# Altium schematic symbol library InverterSCHLib.SchLib: 137 symbols (part 3 of 5)
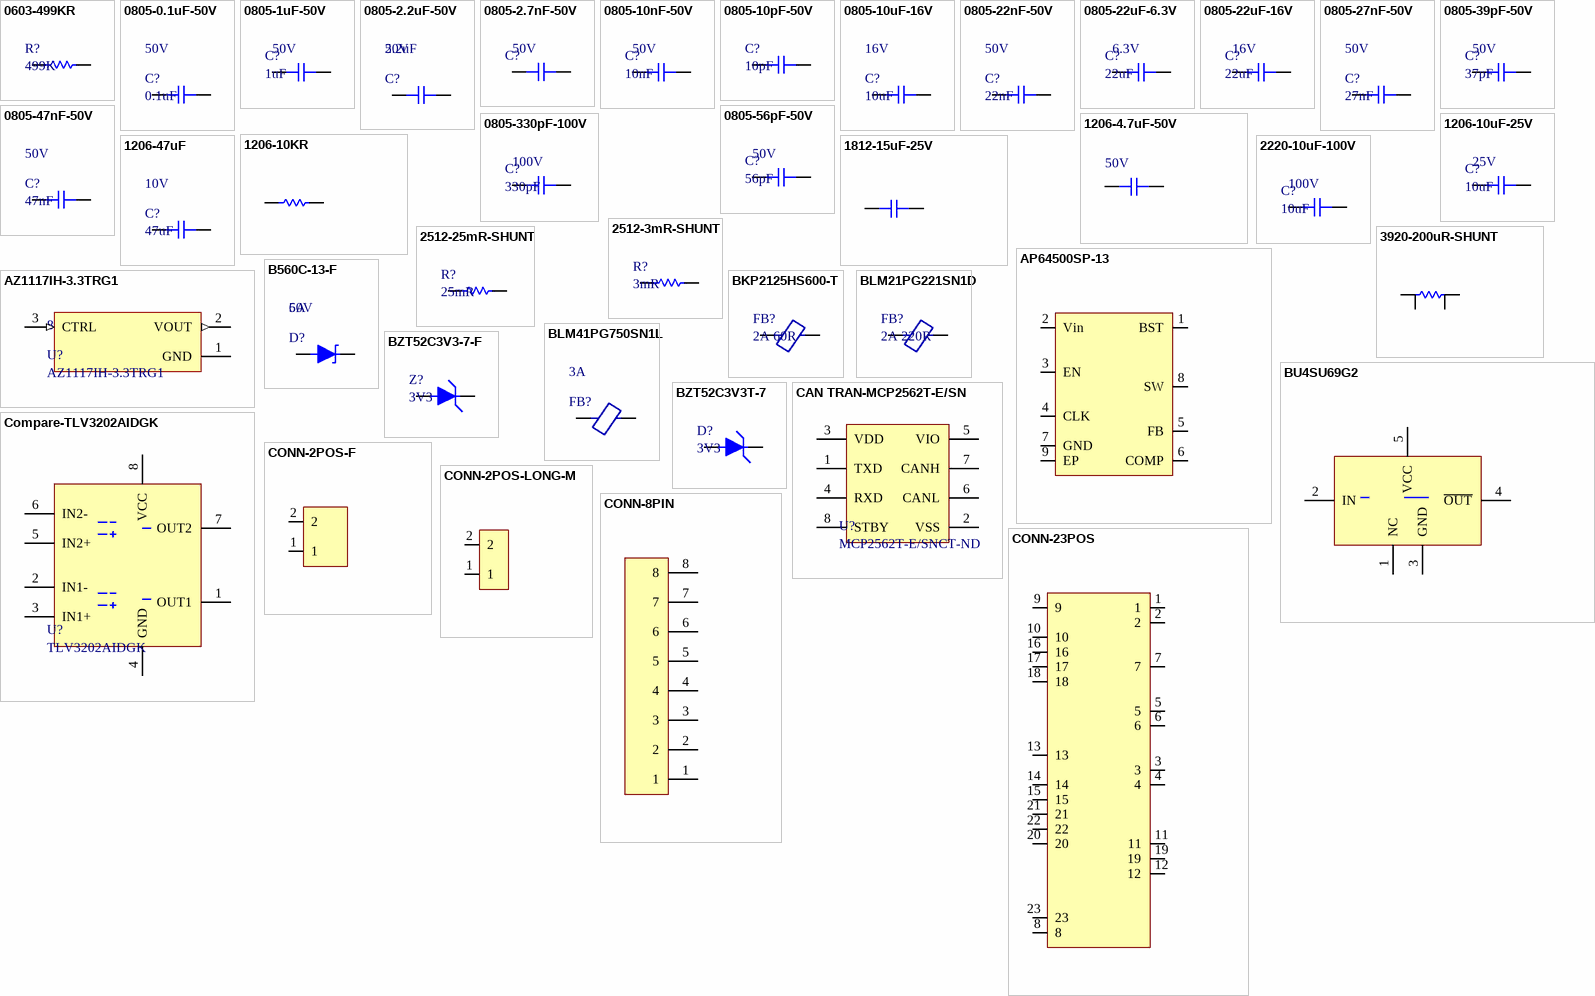
[diagram p5: symbols 0603-499KR to CONN-23POS]

## 3920-200uR-SHUNT
designator R?, comment 200uR
RES SMD 200 UOHM 1% 12W 3920; Manufacturer: Bourns; Manufacturer Part Number: CSS2H-3920R-L200FE; Supplier 1: Digi-Key; Stock 1: 420; Pricing 1: 1=1.6, 10=1.42, 25=1.3052, 50=1.1908, 100=1.0305, 250=0.8702, 500=0.7328 (USD); RoHS Compliant: Yes; ComponentLink1URL: https://www.bourns.com/docs/Product-Datasheets/css2h-3920.pdf?src-supplier=Digi-Key; ComponentLink1Description: https://www.bourns.com/docs/Product-Datasheets/css2h-3920.pdf?src-supplier=Digi-Key; Supplier Part Number 1: CSS2H-3920R-L200FEDKR-ND
footprint RES-SHUNT
pins: 1, 2, 3, 4

## AP64500SP-13
designator U?
DCDC CONV HV BUCK SO-8EP; Manufacturer: Diodes; Supplier 1: Digi-Key; Manufacturer Part Number: AP64500SP-13; Stock 1: 5134; Pricing 1: 1=2.44, 10=2.191, 25=2.0672, 100=1.7611, 250=1.6536, 500=1.4469, 1000=1.19886 (USD); Supplier Part Number 1: 31-AP64500SP-13DKR-ND
footprint SO-8 (TSOP, 8-Leads, Body 4.90x3.85mm, Pitch 1.27mm, Thermal Pad 3.35x2.71mm, IPC Medium Density)
pins: 1 BST, 2 Vin, 3 EN, 4 CLK, 5 FB, 6 COMP, 7 GND, 8 SW, 9 EP

## AZ1117IH-3.3TRG1
designator U?  Output Current: 800mA
IC REG LINEAR 3.3V 1A SOT223; Manufacturer: Diodes; Dropout Voltage: 1.2V; Number of Regulators: 1; Supplier 1: Digi-Key; Stock 1: 96644; Pricing 1: 1=0.38, 10=0.305, 25=0.2796, 100=0.2079, 250=0.18844, 500=0.15594, 1000=0.11696 (USD); Mount: Surface Mount; Case/Package: TO-261-4; Number of Pins: 3; Min Operating Temperature: -40°C; Max Operating Temperature: 125°C; Packaging: Tape and Reel; Output Voltage: 3.3V; Min Current Limit: 1A; RoHS Compliant: Yes; ComponentLink1URL: https://www.diodes.com/assets/Datasheets/AZ1117I.pdf?src-supplier=Digi-Key; ComponentLink1Description: https://www.diodes.com/assets/Datasheets/AZ1117I.pdf?src-supplier=Digi-Key; Supplier Part Number 1: AZ1117IH-3.3TRG1DICT-ND; Manufacturer Part Number: AZ1117IH-3.3TRG1
footprint SOT223 (SOT223, 4-Leads, Body 6.50x7.00mm (avg), Pitch 2.30mm, IPC Medium Density)
pins: 1 GND, 2 VOUT (out), 3 CTRL (in)

## B560C-13-F
designator D?  Voltage Rating (DC): 60V  Current Rating: 5A  (hidden comment: *)
DIODE SCHOTTKY 60V 5A SMC; Manufacturer: Diodes; Manufacturer Part Number: B560C-13-F; Max Reverse Current: 500uA; Forward Voltage: 700mV; Max Forward Surge Current (Ifsm): 100A; Element Configuration: Single; Polarity: Standard; Capacitance: 300pF; Supplier 1: Digi-Key; Stock 1: 50354; Pricing 1: 1=0.53, 10=0.454, 100=0.3388, 500=0.2662, 1000=0.2057 (USD); Mount: Surface Mount; Case/Package: SMC; Number of Pins: 2; Weight: 0.007408oz; Contact Plating: Tin,Matte; Min Operating Temperature: -55°C; Max Operating Temperature: 125°C; Package Quantity: 3000; Packaging: Tape and Reel; Forward Current: 5A; Max Repetitive Reverse Voltage (Vrrm): 60V; Average Rectified Current: 5A; Peak Non-Repetitive Surge Current: 100A; Termination: SMD/SMT; Output Current: 5A; Max Reverse Voltage (DC): 60V; Series: -; Length: 7.11mm; Width: 6.22mm; Height: 2.5mm; Radiation Hardening: No; REACH SVHC: No SVHC; Lead Free: Lead Free; RoHS Compliant: Yes; ComponentLink1URL: https://www.diodes.com/assets/Datasheets/ds13012.pdf?src-supplier=Digi-Key; ComponentLink1Description: https://www.diodes.com/assets/Datasheets/ds13012.pdf?src-supplier=Digi-Key; ComponentLink2URL: http://www.farnell.com/datasheets/2238476.pdf?src-supplier=Element14; ComponentLink2Description: http://www.farnell.com/datasheets/2238476.pdf?src-supplier=Element14; ComponentLink3URL: https://www.verical.com/server-webapp/html/getDatasheet?partID=89786&src-supplier=Verical; ComponentLink3Description: https://www.verical.com/server-webapp/html/getDatasheet?partID=89786&src-supplier=Verical; ComponentLink4URL: http://www.diodes.com/datasheets/ds13012.pdf?src-supplier=Future+Electronics; ComponentLink4Description: http://www.diodes.com/datasheets/ds13012.pdf?src-supplier=Future+Electronics; ComponentLink5URL: http://www.diodes.com//datasheets/ds13012.pdf?src-supplier=Avnet+Europe; ComponentLink5Description: http://www.diodes.com//datasheets/ds13012.pdf?src-supplier=Avnet+Europe; ComponentLink6URL: http://www.jameco.com/Jameco/Products/ProdDS/1538961.pdf?src-supplier=Jameco; ComponentLink6Description: http://www.jameco.com/Jameco/Products/ProdDS/1538961.pdf?src-supplier=Jameco; ComponentLink7URL: http://datasheet.iiic.cc/diodes/B560C-13-F.pdf?src-supplier=IIIC; ComponentLink7Description: http://datasheet.iiic.cc/diodes/B560C-13-F.pdf?src-supplier=IIIC; Supplier Part Number 1: B560C-FDICT-ND
footprint DO-214AB, SMC (Molded Diode, 2-Leads, Body 6.86x5.91mm, IPC Medium Density)
pins: 1, 2

## BKP2125HS600-T
designator FB?, comment 2A 60R
FERRITE BEAD 60 OHM 0805 1LN; Manufacturer: Taiyo Yuden; Manufacturer Part Number: BKP2125HS600-T; Tolerance: 25%; Resistance: 25mR; Max Current Rating: 3A; Number of Lines: 1; Test Frequency: 100MHz; Shielding: Unshielded; Supplier 1: Digi-Key; Stock 1: 471; Pricing 1: 1=0.11, 10=0.086, 25=0.0768, 50=0.0564, 100=0.0487, 250=0.03848 (USD); Mount: Surface Mount; Case/Package: 0805; Number of Pins: 2; Core Material: Ferrite; Case Code (Metric): 2125; Case Code (Imperial): 0805; Min Operating Temperature: -55°C; Max Operating Temperature: 85°C; Packaging: Tape and Reel; Impedance: 60R; Package Quantity: 1; DC Resistance (DCR): 25mR; Max DC Current: 3A; Termination: SMD/SMT; Series: BK; Length: 2.3mm; Width: 0.049inch; Height: 1.05mm; Depth: 1.45mm; REACH SVHC: Unknown; Lead Free: Lead Free; Halogen Free: Halogen Free; RoHS Compliant: Yes; ComponentLink1URL: http://ds.yuden.co.jp/TYCOMPAS/ut/detail.do?productNo=BKP2125HS600-T&fileName=BKP2125HS600-T_SS&mode=specSheetDownload&src-supplier=Digi-Key; ComponentLink1Description: http://ds.yuden.co.jp/TYCOMPAS/ut/detail.do?productNo=BKP2125HS600-T&fileName=BKP2125HS600-T_SS&mode=specSheetDownload&src-supplier=Digi-Key; Supplier Part Number 1: 587-1932-1-ND
footprint FB-0805 (Chip Resistor, 2-Leads, Body 2.00x1.25mm, IPC Medium Density)
pins: 1, 2

## BLM21PG221SN1D
designator FB?, comment 2A 220R
FERRITE BEAD 220 OHM 0805 1LN; Manufacturer: Murata; Manufacturer Part Number: BLM21PG221SN1D; Material: Ferrite,Steel; Tolerance: 25%; Number of Lines: 1; DC Resistance (DCR): 45mR; Test Frequency: 100MHz; Shielding: Unshielded; Supplier 1: Digi-Key; Stock 1: 73275; Pricing 1: 1=0.1, 10=0.081, 25=0.074, 50=0.0666, 100=0.0488, 250=0.03552, 500=0.03256, 1000=0.02812 (USD); Case/Package: 0805; Number of Pins: 2; Core Material: Ferrite; Case Code (Metric): 2012; Case Code (Imperial): 0805; Contact Plating: Tin,Matte; Min Operating Temperature: -55°C; Max Operating Temperature: 125°C; Package Quantity: 1; Impedance: 220R; Max Current Rating: 2A; Packaging: Tape and Reel; Current Rating: 2A; Max DC Current: 2A; Termination: SMD/SMT; DC Current: 2A; Frequency: 100MHz; Number of Circuits: 1; Current: 2A; Series: BLM21P; DC Resistance-Max: 45mR; Length: 2mm; Width: 1.25mm; Height: 0.85mm; Depth: 1.25mm; Radiation Hardening: No; REACH SVHC: No SVHC; Military Standard: Not; Lead Free: Lead Free; RoHS Compliant: Yes; ComponentLink1URL: http://www.farnell.com/datasheets/1914683.pdf?src-supplier=Element14; ComponentLink1Description: http://www.farnell.com/datasheets/1914683.pdf?src-supplier=Element14; ComponentLink2URL: https://www.distrelec.biz/Web/Downloads/ta/_e/anBLM21P_Data_E.pdf?mime=application%2Fpdf&src-supplier=Distrelec; ComponentLink2Description: https://www.distrelec.biz/Web/Downloads/ta/_e/anBLM21P_Data_E.pdf?mime=application%2Fpdf&src-supplier=Distrelec; ComponentLink3URL: http://www.jameco.com/Jameco/Products/ProdDS/1845321.pdf?src-supplier=Jameco; ComponentLink3Description: http://www.jameco.com/Jameco/Products/ProdDS/1845321.pdf?src-supplier=Jameco; ComponentLink4URL: https://www.murata.com/en-us/products/productdata/8796738977822/ENFA0005.pdf?src-supplier=Digi-Key; ComponentLink4Description: https://www.murata.com/en-us/products/productdata/8796738977822/ENFA0005.pdf?src-supplier=Digi-Key; ComponentLink5URL: http://uk.rs-online.com/webdocs/1388/0900766b813885e8.pdf?src-supplier=RSComponents; ComponentLink5Description: http://uk.rs-online.com/webdocs/1388/0900766b813885e8.pdf?src-supplier=RSComponents; ComponentLink6URL: http://search.murata.co.jp/Ceramy/image/img/PDF/ENG/L0110S0100BLM21P.pdf?src-supplier=Avnet; ComponentLink6Description: http://search.murata.co.jp/Ceramy/image/img/PDF/ENG/L0110S0100BLM21P.pdf?src-supplier=Avnet; ComponentLink7URL: http://search.murata.co.jp/Ceramy/image/img/PDF/ENG/L0110S0100BLM21P.pdf?src-supplier=Future+Electronics; ComponentLink7Description: http://search.murata.co.jp/Ceramy/image/img/PDF/ENG/L0110S0100BLM21P.pdf?src-supplier=Future+Electronics; ComponentLink8URL: http://www.produktinfo.conrad.com/datenblaetter/425000-449999/442529-da-01-en-CHIP_DROSSEL_0805_220R_2000MA_2_0X1_25MM.pdf?src-supplier=Conrad; ComponentLink8Description: http://www.produktinfo.conrad.com/datenblaetter/425000-449999/442529-da-01-en-CHIP_DROSSEL_0805_220R_2000MA_2_0X1_25MM.pdf?src-supplier=Conrad; Supplier Part Number 1: 490-1054-1-ND
footprint FB-0805 (Chip Resistor, 2-Leads, Body 2.00x1.25mm, IPC Medium Density)
pins: 1, 2

## BLM41PG750SN1L
designator FB?, comment Max DC Current: 3A  (hidden comment: 75R @ 100MHz)
FERRITE BEAD 75 OHM 1806 1LN; Manufacturer: Murata; Manufacturer Part Number: BLM41PG750SN1L; Material: Ferrite,Steel; Current Rating: 3.5A; Tolerance: 25%; Number of Lines: 1; DC Resistance (DCR): 25mR; Shielding: Unshielded; DC Resistance-Max: 15mR; Supplier 1: Digi-Key; Stock 1: 3821; Pricing 1: 1=0.34, 10=0.269, 25=0.2272, 50=0.2, 100=0.1789, 250=0.15576, 500=0.14104, 1000=0.11998 (USD); Mount: Surface Mount; Case/Package: 1806; Number of Pins: 2; Core Material: Ferrite; Case Code (Metric): 4516; Case Code (Imperial): 1806; Contact Plating: Tin,Matte; Min Operating Temperature: -55°C; Max Operating Temperature: 125°C; Impedance: 75R; Package Quantity: 1; Packaging: Tape and Reel; Max Current Rating: 3A; Termination: Flat; Test Frequency: 100MHz; Frequency: 100MHz; Number of Circuits: 1; Series: BLM41P; Inductor Type: FERRITE BEAD; Length: 4.5mm; Width: 1.6mm; Height: 1.6mm; Depth: 1.6mm; REACH SVHC: No SVHC; Lead Free: Lead Free; RoHS Compliant: Yes; ComponentLink1URL: http://www.murata.com/~/media/webrenewal/support/library/catalog/products/emc/emifil/c31e.ashx?src-supplier=Avnet; ComponentLink1Description: http://www.murata.com/~/media/webrenewal/support/library/catalog/products/emc/emifil/c31e.ashx?src-supplier=Avnet; ComponentLink2URL: https://www.murata.com/en-global/products/productdata/8796733767710/S0580E.pdf?src-supplier=Digi-Key; ComponentLink2Description: https://www.murata.com/en-global/products/productdata/8796733767710/S0580E.pdf?src-supplier=Digi-Key; ComponentLink3URL: http://www.farnell.com/datasheets/1756166.pdf?src-supplier=Element14; ComponentLink3Description: http://www.farnell.com/datasheets/1756166.pdf?src-supplier=Element14; ComponentLink4URL: http://uk.rs-online.com/webdocs/13eb/0900766b813eb952.pdf?src-supplier=RSComponents; ComponentLink4Description: http://uk.rs-online.com/webdocs/13eb/0900766b813eb952.pdf?src-supplier=RSComponents; ComponentLink5URL: https://www.distrelec.biz/Web/Downloads/ta/_e/arBLM41P_Data_E.pdf?mime=application%2Fpdf&src-supplier=Distrelec; ComponentLink5Description: https://www.distrelec.biz/Web/Downloads/ta/_e/arBLM41P_Data_E.pdf?mime=application%2Fpdf&src-supplier=Distrelec; ComponentLink6URL: http://search.murata.co.jp/Ceramy/image/img/PDF/ENG/L0110S0100BLM41P.pdf?src-supplier=Future+Electronics; ComponentLink6Description: http://search.murata.co.jp/Ceramy/image/img/PDF/ENG/L0110S0100BLM41P.pdf?src-supplier=Future+Electronics; ComponentLink7URL: http://www.murata.com/products/catalog/pdf/c31e.pdf?src-supplier=Avnet+Europe; ComponentLink7Description: http://www.murata.com/products/catalog/pdf/c31e.pdf?src-supplier=Avnet+Europe; ComponentLink8URL: http://www.jameco.com/Jameco/Products/ProdDS/1845515.pdf?src-supplier=Jameco; ComponentLink8Description: http://www.jameco.com/Jameco/Products/ProdDS/1845515.pdf?src-supplier=Jameco; ComponentLink9URL: http://www.produktinfo.conrad.com/datenblaetter/425000-449999/442679-da-01-en-CHIP_DROSSEL_1806_75R0_3000MA_4_5X1_60MM.pdf?src-supplier=Conrad; ComponentLink9Description: http://www.produktinfo.conrad.com/datenblaetter/425000-449999/442679-da-01-en-CHIP_DROSSEL_1806_75R0_3000MA_4_5X1_60MM.pdf?src-supplier=Conrad; Supplier Part Number 1: 490-4013-1-ND
pins: 1, 2

## BU4SU69G2
designator U?
IC INVERTER 1CH 1-INP 5SSOP; Manufacturer: Rohm; Manufacturer Part Number: BU4SU69G2-TR; Number of Inputs: 1; Propagation Delay: 25ns; Max Supply Voltage: 16V; Min Supply Voltage: 3V; Quiescent Current: 1uA; High Level Output Current: 3.4mA; Supplier 1: Digi-Key; Stock 1: 2901; Pricing 1: 1=0.89, 10=0.781, 25=0.7336, 100=0.5986, 250=0.556, 500=0.47318, 1000=0.37855 (USD); Mount: Surface Mount; Case/Package: SSOP; Number of Pins: 5; Contact Plating: Copper,Tin; Min Operating Temperature: -40°C; Max Operating Temperature: 85°C; Logic Function: Inverter; Number of Elements: 1; Package Quantity: 1; Packaging: Tape and Reel; Number of Circuits: 1; Low Level Output Current: 3.4mA; Turn-On Delay Time: 25ns; Number of Gates: 1; Series: 4S; Number of Functions: 1; Supply Voltage-Nom: 16V; Technology: CMOS; Radiation Hardening: No; Lead Free: Lead Free; RoHS Compliant: Yes; ComponentLink1URL: http://www.mouser.com/ds/2/348/bu4su69g2-e-962457.pdf?src-supplier=Mouser; ComponentLink1Description: http://www.mouser.com/ds/2/348/bu4su69g2-e-962457.pdf?src-supplier=Mouser; ComponentLink2URL: http://rohmfs.rohm.com/en/products/databook/datasheet/ic/logic_switch/standard_logic/bu4s01g2-e.pdf?src-supplier=Avnet; ComponentLink2Description: http://rohmfs.rohm.com/en/products/databook/datasheet/ic/logic_switch/standard_logic/bu4s01g2-e.pdf?src-supplier=Avnet; ComponentLink3URL: https://www.verical.com/server-webapp/html/getDatasheet?partID=458866&src-supplier=Verical; ComponentLink3Description: https://www.verical.com/server-webapp/html/getDatasheet?partID=458866&src-supplier=Verical; ComponentLink4URL: http://rohmfs.rohm.com/en/techdata_basic/ic/package/ssop5_1-e.pdf?src-supplier=Digi-Key; ComponentLink4Description: http://rohmfs.rohm.com/en/techdata_basic/ic/package/ssop5_1-e.pdf?src-supplier=Digi-Key; ComponentLink5URL: http://rohmfs.rohm.com/en/products/databook/datasheet/ic/logic_switch/standard_logic/bu4su69g2-e.pdf?src-supplier=Digi-Key; ComponentLink5Description: http://rohmfs.rohm.com/en/products/databook/datasheet/ic/logic_switch/standard_logic/bu4su69g2-e.pdf?src-supplier=Digi-Key; ComponentLink6URL: https://produktinfo.conrad.com/datenblaetter/125000-149999/140507-da-01-en-IC_BU4SU69G2_TR_SSOP5.pdf?src-supplier=Conrad; ComponentLink6Description: https://produktinfo.conrad.com/datenblaetter/125000-149999/140507-da-01-en-IC_BU4SU69G2_TR_SSOP5.pdf?src-supplier=Conrad; Supplier Part Number 1: BU4SU69G2DKR-ND
footprint SSOP5 (SOT23, 5-Leads, Body 2.90x2.80mm, Pitch 0.95mm, IPC Medium Density)
pins: 1 NC, 2 IN, 3 GND, 4 ~{OUT}, 5 VCC

## BZT52C3V3-7-F
designator Z?, comment 3V3
DIODE ZENER 3.3V 500MW SOD123; Manufacturer: Diodes; Manufacturer Part Number: BZT52C3V3-7-F; Tolerance: 6%; Forward Voltage: 900mV; Impedance: 95R; Max Reverse Leakage Current: 5uA; Zener Current: 5mA; Element Configuration: Single; Output Current: 50mA; ESD Protection: No; Supplier 1: Digi-Key; Stock 1: 85644; Pricing 1: 1=0.22, 10=0.202, 100=0.1101, 500=0.06776, 1000=0.0462 (USD); Mount: Surface Mount; Number of Pins: 2; Weight: 0.000353oz; Contact Plating: Tin,Matte; Min Operating Temperature: -65°C; Max Operating Temperature: 150°C; Max Power Dissipation: 500mW; Package Quantity: 3000; Packaging: Tape and Reel; Zener Voltage: 3.3V; Power Dissipation: 500mW; Voltage Tolerance: 6%; Test Current: 5mA; Working Voltage: 3.3V; Max Reverse Current: 5uA; Termination: SMD/SMT; Power Rating: 500mW; Voltage Rating (DC): 3.3V; Series: -; Length: 2.85mm; Width: 1.7mm; Height: 1.35mm; Radiation Hardening: No; REACH SVHC: No SVHC; Lead Free: Lead Free; RoHS Compliant: Yes; ComponentLink1URL: http://www.jameco.com/Jameco/Products/ProdDS/1589996.pdf?src-supplier=Jameco; ComponentLink1Description: http://www.jameco.com/Jameco/Products/ProdDS/1589996.pdf?src-supplier=Jameco; ComponentLink2URL: https://www.verical.com/server-webapp/html/getDatasheet?partID=116118&src-supplier=Verical; ComponentLink2Description: https://www.verical.com/server-webapp/html/getDatasheet?partID=116118&src-supplier=Verical; Supplier Part Number 1: BZT52C3V3-FDICT-ND
footprint SOD-123 (SODFL, 2-Leads, Body 1.60x3.71mm, IPC Medium Density)
pins: 1, 2

## BZT52C3V3T-7
designator D?, comment 3V3
Diode Zener Single 3.3V 6% 300mW 2-Pin SOD-523 T/R; Manufacturer: Diodes; Manufacturer Part Number: BZT52C3V3T-7; Forward Voltage: 900mV; Impedance: 95R; Zener Current: 5mA; Max Reverse Current: 5uA; ESD Protection: No; Supplier 1: Digi-Key; Stock 1: 0; Pricing 1: 1=0.22, 10=0.202, 100=0.1101, 500=0.06776, 1000=0.0462 (USD); Mount: Surface Mount; Number of Pins: 2; Weight: 3.5E-05oz; Contact Plating: Tin,Matte; Min Operating Temperature: -65°C; Max Operating Temperature: 150°C; Packaging: Tape and Reel; Max Power Dissipation: 300mW; Package Quantity: 3000; Tolerance: 6%; Zener Voltage: 3.3V; Voltage Tolerance: 6%; Max Reverse Leakage Current: 5uA; Power Dissipation: 300mW; Working Voltage: 3.3V; Test Current: 5mA; Element Configuration: Single; Termination: SMD/SMT; Power Rating: 300mW; Series: -; Length: 1.3mm; Width: 0.9mm; Height: 0.7mm; REACH SVHC: No SVHC; Lead Free: Lead Free; RoHS Compliant: Yes; ComponentLink1URL: http://www.farnell.com/datasheets/2238346.pdf?src-supplier=Element14; ComponentLink1Description: http://www.farnell.com/datasheets/2238346.pdf?src-supplier=Element14; ComponentLink2URL: http://www.mouser.com/ds/2/115/ds30502-85251.pdf?src-supplier=Mouser; ComponentLink2Description: http://www.mouser.com/ds/2/115/ds30502-85251.pdf?src-supplier=Mouser; ComponentLink3URL: http://www.diodes.com/datasheets/ds30502.pdf?src-supplier=Avnet+Europe; ComponentLink3Description: http://www.diodes.com/datasheets/ds30502.pdf?src-supplier=Avnet+Europe; ComponentLink4URL: https://www.diodes.com/assets/Datasheets/ds30502.pdf?src-supplier=Digi-Key; ComponentLink4Description: https://www.diodes.com/assets/Datasheets/ds30502.pdf?src-supplier=Digi-Key; Supplier Part Number 1: BZT52C3V3T-7DIDKR-ND
footprint SOD523-ZENER (SODFL, 2-Leads, Body 0.80x1.95mm, IPC Medium Density)
pins: 1, 2

## CAN TRAN-MCP2562T-E/SN
designator U?, comment MCP2562T-E/SNCT-ND
IC TRANSCEIVER HALF 1/1 8SOIC; Manufacturer: Microchip; Propagation Delay: 125ns; Data Rate: 1Mbps; Nominal Supply Current: 85uA; Max Supply Voltage: 5.5V; Min Supply Voltage: 4.5V; Number of Transceivers: 1; Receiver Hysteresis: 200mV; Supplier 1: Digi-Key; Manufacturer Part Number: MCP2562T-E/SN; Stock 1: 0; Pricing 1: 1=0.9, 25=0.75, 100=0.68 (USD); Mount: Surface Mount; Case/Package: SOIC; Number of Pins: 8; Min Operating Temperature: -40°C; Max Operating Temperature: 125°C; Packaging: Tape and Reel; Package Quantity: 3300; Turn-On Delay Time: 125ns; Radiation Hardening: No; Lead Free: Lead Free; ComponentLink1URL: http://ww1.microchip.com/downloads/en/DeviceDoc/25167B.pdf?src-supplier=Digi-Key; ComponentLink1Description: http://ww1.microchip.com/downloads/en/DeviceDoc/25167B.pdf?src-supplier=Digi-Key; ComponentLink2URL: http://ww1.microchip.com/downloads/en/DeviceDoc/25167B.pdf?src-supplier=Avnet; ComponentLink2Description: http://ww1.microchip.com/downloads/en/DeviceDoc/25167B.pdf?src-supplier=Avnet; Supplier Part Number 1: MCP2562T-E/SNDKR-ND
footprint 8-SOIC w/o THRM (SOIC, 8-Leads, Body 4.90x3.90mm, Pitch 1.27mm, IPC Medium Density)
pins: 1 TXD, 2 VSS, 3 VDD, 4 RXD, 5 VIO, 6 CANL, 7 CANH, 8 STBY

## Compare-TLV3202AIDGK
designator U?, comment TLV3202AIDGK
IC COMPAR PWR RRI DL PP 8VSSOP; Manufacturer: Texas Instruments; Number of Elements: 2; Propagation Delay: 50ns; Min Supply Voltage: 2.7V; Max Supply Voltage: 5.5V; Common Mode Rejection Ratio: 70dB; Nominal Supply Current: 50uA; Max Supply Current: 40uA; Input Bias Current: 50pA; Input Offset Voltage (Vos): 5mV; Response Time: 0.047us; Hysteresis: 1.2mV; Power Supply Rejection Ratio (PSRR): 85dB; Manufacturer Part Number: TLV3202AIDGK; Stock 1: 6035; Pricing 1: 1=1.77, 10=1.59, 25=1.5, 100=1.2, 250=1.05, 500=1.02, 1000=0.81, 2500=0.78, 5000=0.75 (USD); Mount: Surface Mount; Case/Package: VSSOP; Number of Pins: 8; Min Operating Temperature: -40°C; Max Operating Temperature: 125°C; Packaging: Rail/Tube; Package Quantity: 80; Number of Channels: 2; Max Input Current: 50pA; Quiescent Current: 50uA; Type: General Purpose; Length: 3.1mm; Height: 0.95mm; Width: 3.1mm; Radiation Hardening: No; REACH SVHC: No SVHC; Lead Free: Lead Free; ComponentLink1URL: http://www.ti.com/lit/gpn/tlv3202?src-supplier=Mouser; ComponentLink1Description: http://www.ti.com/lit/gpn/tlv3202?src-supplier=Mouser; ComponentLink2URL: http://www.farnell.com/datasheets/1882110.pdf?src-supplier=Element14; ComponentLink2Description: http://www.farnell.com/datasheets/1882110.pdf?src-supplier=Element14; Supplier Part Number 1: 296-34992-ND; Supplier 1: Digi-Key
footprint 8VSSOP (TSOP, 8-Leads, Body 3.00x3.00mm, Pitch 0.65mm, IPC Medium Density)
pins: 1 OUT1, 2 IN1-, 3 IN1+, 4 GND, 5 IN2+, 6 IN2-, 7 OUT2, 8 VCC

## CONN-2POS-F
designator J?, comment PPPC021LFBN-RC
CONN HDR 2POS 0.1 GOLD PCB; Manufacturer: Sullins; Number of Positions: 2; Connector Type: Header; Pitch: 0.1inch; Supplier 1: Digi-Key; Manufacturer Part Number: PPPC021LFBN-RC; Stock 1: 17824; Pricing 1: 1=0.33, 10=0.315, 100=0.2205, 500=0.189, 1000=0.1575, 5000=0.135, 10000=0.126 (USD); Mount: Through Hole; Color: Black; Contact Plating: Gold; Contact Material: Bronze; Housing Material: Plastic; Package Quantity: 1000; Number of Rows: 1; Packaging: Bulk; Termination: Solder; Contact Type: Female Socket; Length: 5.58mm; Width: 2.5mm; Height: 8.5mm; Lead Free: Lead Free; RoHS Compliant: Yes; Supplier Part Number 1: S7035-ND
footprint CONN-2POS-F
pins: 1, 2

## CONN-2POS-LONG-M
designator J?, comment 929710-06-01-RK
CONN HEADER VERT 2POS; Manufacturer: 3M; Number of Positions: 2; Gender: Male; Connector Type: Male Pin; Max Current Rating: 2.5A; Row Spacing: 0.1inch; Supplier 1: Digi-Key; Manufacturer Part Number: 929710-06-01-RK; Stock 1: 0; Pricing 1: 1=0.32, 10=0.303, 25=0.26, 50=0.221, 100=0.2123, 250=0.19068, 500=0.182 (USD); Mount: Through Hole; Color: Black; Contact Plating: Tin; Contact Material: Copper Alloy; Housing Material: Polychlorinated; Housing Color: Black; Min Operating Temperature: -40°C; Max Operating Temperature: 105°C; Package Quantity: 1000; Number of Rows: 2; Packaging: Bulk; Termination: Solder; Series: 929; Contact Type: Male Pin; Orientation: Straight; Length: 2.5mm; Contact Mating Length: 0.318inch; Depth: 5.46mm; RoHS Compliant: Yes; ComponentLink1URL: http://multimedia.3m.com/mws/mediawebserver?66666UuZjcFSLXTtmXME5x46EVuQEcuZgVs6EVs6E666666--?src-supplier=Digi-Key; ComponentLink1Description: http://multimedia.3m.com/mws/mediawebserver?66666UuZjcFSLXTtmXME5x46EVuQEcuZgVs6EVs6E666666--?src-supplier=Digi-Key; Supplier Part Number 1: 3M156366-02-ND
footprint CONN-2POS-LONG-M
pins: 1, 2

## CONN-8PIN
designator J?, comment PREC004DAAN-RC
CONN HEADER VERT 8POS 2.54MM; Manufacturer: Sullins; Number of Positions: 8; Connector Type: Male Pin; Pitch: 0.1inch; Supplier 1: Digi-Key; Manufacturer Part Number: PREC004DAAN-RC; Stock 1: 939; Pricing 1: 1=0.19, 10=0.179, 25=0.1524, 50=0.1334, 100=0.1239, 250=0.10956, 500=0.1048 (USD); Mount: Through Hole; Color: Black; Contact Plating: Tin; Package Quantity: 1; Number of Rows: 2; Packaging: Bulk; Termination: Solder; Series: -; Contact Type: Male Pin; Row Spacing: 0.1inch; Contact Mating Length: 0.23inch; RoHS Compliant: Yes; ComponentLink1URL: https://drawings-pdf.s3.amazonaws.com/11636.pdf?src-supplier=Digi-Key; ComponentLink1Description: https://drawings-pdf.s3.amazonaws.com/11636.pdf?src-supplier=Digi-Key; Supplier Part Number 1: S2012EC-04-ND
footprint CONN-8PIN
pins: 1, 2, 3, 4, 5, 6, 7, 8

## CONN-23POS
designator J?, comment 776200-1
CONN HEADER VERT 23POS 4MM; Manufacturer: TE Connectivity AMP; Number of Positions: 23; Gender: Male; Circuit Application: Power; PCB Mount Alignment: Yes (With); PCB Mount Retention: Without; Shielding: Unshielded; Max Voltage Rating (AC): 250V; Connector System: Wire-to-Device; Pitch: 0.157inch; PCB Thickness: 0.062inch; Tab Thickness: 1.3mm; Supplier 1: Digi-Key; Manufacturer Part Number: 776200-1; Stock 1: 0; Pricing 1: 1=11.1, 10=10.621, 100=8.9314, 500=7.48308, 1000=6.61409 (USD); Mount: Panel,Through Hole; Contact Plating: Tin; Contact Material: Brass; Housing Material: Thermoplastic; Color: Black; Min Operating Temperature: -40°C; Max Operating Temperature: 221°C; Number of Rows: 3; Packaging: Bulk; Package Quantity: 1; Termination: Solder; Series: Ampseal Sealed; Number of Contacts: 23; Orientation: Straight; Number of Signal Positions: 23; Sealable: Yes (With); Length: 60.8mm; Width: 1.264inch; Height: 32.1mm; Depth: 32.1mm; Radiation Hardening: No; ELV: Compliant; Flammability Rating: UL94 V-0; Lead Free: Lead Free; ComponentLink1URL: http://uk.rs-online.com/webdocs/1013/0900766b81013e1b.pdf?src-supplier=RSComponents; ComponentLink1Description: http://uk.rs-online.com/webdocs/1013/0900766b81013e1b.pdf?src-supplier=RSComponents; ComponentLink2URL: http://www.te.com/commerce/DocumentDelivery/DDEController?Action=srchrtrv&DocNm=1654285_AMPSEAL_Sealed_Connector&DocType=CS&DocLang=English&s_cid=1046&src-supplier=Avnet; ComponentLink2Description: http://www.te.com/commerce/DocumentDelivery/DDEController?Action=srchrtrv&DocNm=1654285_AMPSEAL_Sealed_Connector&DocType=CS&DocLang=English&s_cid=1046&src-supplier=Avnet; ComponentLink3URL: http://www1.futureelectronics.com/doc/TYCO%20ELECTRONICS/776200-1.pdf?src-supplier=Future+Electronics; ComponentLink3Description: http://www1.futureelectronics.com/doc/TYCO%20ELECTRONICS/776200-1.pdf?src-supplier=Future+Electronics; Supplier Part Number 1: A129020-ND
footprint Conn 23POS
pins: 1, 2, 3, 4, 5, 6, 7, 8, 9, 10, 11, 12, 13, 14, 15, 16, 17, 18, 19, 20, 21, 22, 23

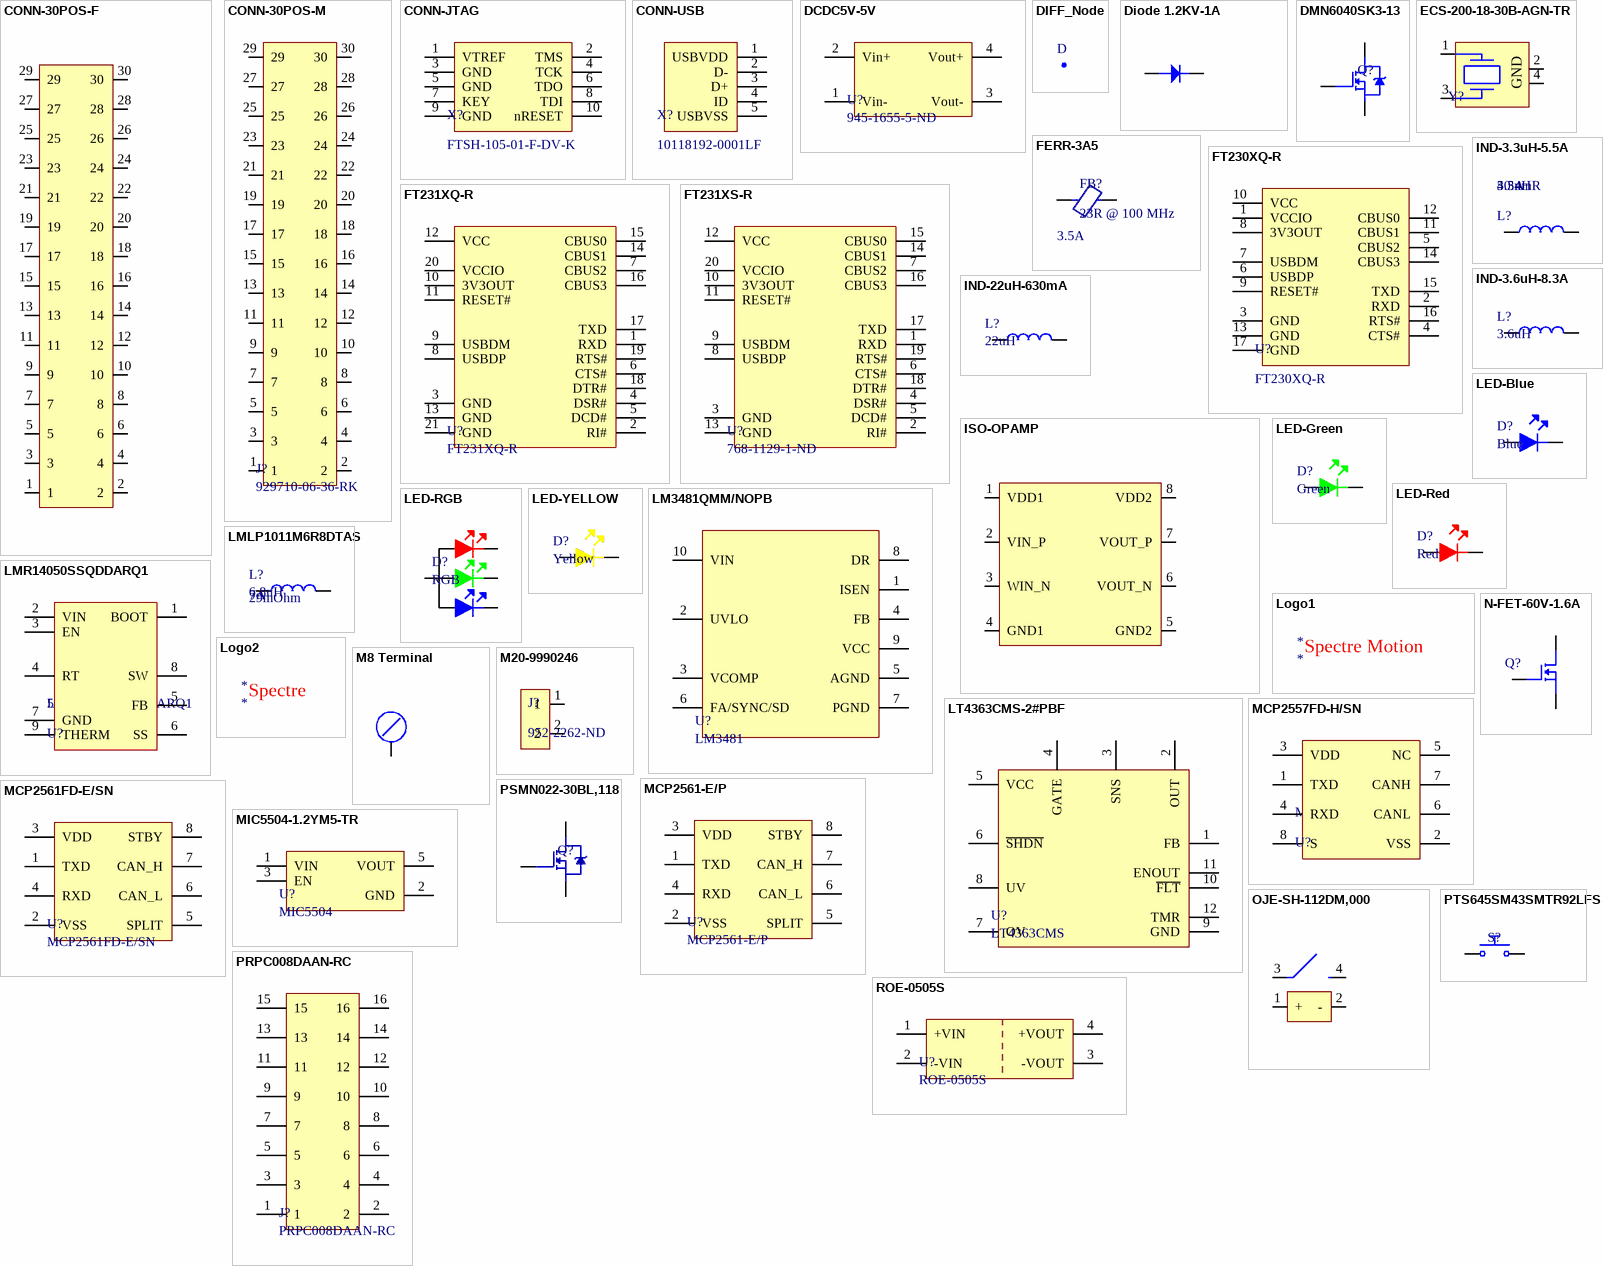
[diagram p2: symbols CONN-30POS-F to ROE-0505S]

## CONN-30POS-F
designator J?, comment 1-534998-5
CONN RCPT 30POS 0.1 GOLD PCB; Manufacturer: TE Connectivity; Number of Positions: 30; Connector Type: Receptacle,Connector,Socket; PCB Mount Retention: Without; PCB Mounting Orientation: Vertical; Contact Current Rating: 2A; Insulation Resistance: 5GR; Contact Resistance: 12MR; Gender: Female; Boss: No (Without); High Temperature Compatible: No; Stackable: Yes; Voltage Rating: 250V; Pitch: 2.54mm; Row Spacing: 0.1inch; PCB Thickness: 1.57mm; Contact Post Length: 0.125inch; Plating Thickness: 7.61um; Tail Length: 3.18mm; Approvals: CSA; Supplier 1: Digi-Key; Manufacturer Part Number: 1-534998-5; Stock 1: 870; Pricing 1: 1=4.73, 10=4.536, 100=3.78, 500=3.213, 1000=2.7405, 5000=2.457 (USD); Mount: Through Hole; Contact Plating: Gold,Tin,Lead; Color: Black; Contact Material: Bronze; Housing Color: Black; Housing Material: Thermoplastic; Contact Shape: Round; Min Operating Temperature: -65°C; Max Operating Temperature: 125°C; Number of Rows: 2; Package Quantity: 15; Packaging: Rail/Tube; Termination: Solder; Number of Contacts: 30; Series: AMPMODU MOD IV; Contact Type: Female Socket; Orientation: Straight; Current Rating: 2A; Sealable: No (Without); Length: 38.1mm; Height: 5.03mm; Contact Mating Length: 3.77mm; Depth: 5.03mm; Radiation Hardening: No; Lead Free: Contains Lead; ELV: Non-Compliant; Flammability Rating: UL94 V-0; ComponentLink1URL: http://www.te.com/commerce/DocumentDelivery/DDEController?Action=srchrtrv&DocNm=1307819_AMPMODU&DocType=DS&DocLang=English&s_cid=1046&src-supplier=Avnet; ComponentLink1Description: http://www.te.com/commerce/DocumentDelivery/DDEController?Action=srchrtrv&DocNm=1307819_AMPMODU&DocType=DS&DocLang=English&s_cid=1046&src-supplier=Avnet; ComponentLink2URL: http://www.onlinecomponents.com/productFiles/mf-AMP/eng_cat_1307819_0306_084_222_.pdf?src-supplier=Onlinecomponents.com; ComponentLink2Description: http://www.onlinecomponents.com/productFiles/mf-AMP/eng_cat_1307819_0306_084_222_.pdf?src-supplier=Onlinecomponents.com; ComponentLink3URL: https://www.te.com/commerce/DocumentDelivery/DDEController?Action=srchrtrv&DocNm=534998&DocType=Customer+Drawing&DocLang=English&src-supplier=Digi-Key; ComponentLink3Description: https://www.te.com/commerce/DocumentDelivery/DDEController?Action=srchrtrv&DocNm=534998&DocType=Customer+Drawing&DocLang=English&src-supplier=Digi-Key; Supplier Part Number 1: A26494-ND
footprint CONN POS-F
pins: 1, 2, 3, 4, 5, 6, 7, 8, 9, 10, 11, 12, 13, 14, 15, 16, 17, 18, 19, 20, 21, 22, 23, 24, 25, 26, 27, 28, 29, 30

## CONN-30POS-M
designator J?, comment 929710-06-36-RK
CONN HEADER VERT 72POS 2.54MM; Manufacturer: 3M; Number of Positions: 72; Gender: Male; Connector Type: Male Pin; Max Current Rating: 2.5A; Pitch: 0.1inch; Supplier 1: Digi-Key; Manufacturer Part Number: 929710-06-36-RK; Stock 1: 312; Pricing 1: 1=6.62, 10=6.342, 100=5.2389, 500=4.41168, 1000=3.86022 (USD); Mount: Through Hole; Color: Black; Contact Plating: Tin; Housing Color: Black; Contact Material: Copper Alloy; Housing Material: Polychlorinated; Min Operating Temperature: -40°C; Max Operating Temperature: 105°C; Package Quantity: 100; Number of Rows: 2; Packaging: Bulk; Termination: Solder; Series: 929; Contact Type: Male Pin; Orientation: Straight; Length: 91.4mm; Width: 5.46mm; Height: 2.54mm; Row Spacing: 0.1inch; Contact Mating Length: 0.318inch; Depth: 5.48mm; Lead Free: Lead Free; RoHS Compliant: Yes; ComponentLink1URL: http://www.mouser.com/ds/2/1/ts0769-35914.pdf?src-supplier=Mouser; ComponentLink1Description: http://www.mouser.com/ds/2/1/ts0769-35914.pdf?src-supplier=Mouser; ComponentLink2URL: http://multimedia.3m.com/mws/mediawebserver?66666UuZjcFSLXTtmXME5x46EVuQEcuZgVs6EVs6E666666--?src-supplier=Digi-Key; ComponentLink2Description: http://multimedia.3m.com/mws/mediawebserver?66666UuZjcFSLXTtmXME5x46EVuQEcuZgVs6EVs6E666666--?src-supplier=Digi-Key; Supplier Part Number 1: 3M156366-72-ND
footprint CONN_30POS_M
pins: 1, 2, 3, 4, 5, 6, 7, 8, 9, 10, 11, 12, 13, 14, 15, 16, 17, 18, 19, 20, 21, 22, 23, 24, 25, 26, 27, 28, 29, 30

## CONN-JTAG
designator X?, comment FTSH-105-01-F-DV-K
CONN_JTAG_10pin .050 Connector Dual Header 10 Position Surface Mount; Manufacturer: Samtec; Max Current Rating: 1.75A; Number of Positions: 10; Connector Type: Male Pin; Pitch: 1.27mm; Row Spacing: 0.05inch; Supplier 1: Digi-Key; Manufacturer Part Number: FTSH-105-01-F-DV-K; Stock 1: 18199; Pricing 1: 1=2.9, 10=2.784, 100=2.32, 500=1.972, 1000=1.682, 5000=1.508 (USD); Mount: Surface Mount; Contact Material: Bronze,Copper; Contact Plating: Nickel,Gold; Colour: Black; Housing Colour: Black; Housing Material: Polymer; Min Operating Temperature: -55°C; Max Operating Temperature: 125°C; Number of Rows: 2; Packaging: Rail/Tube; Package Quantity: 1; Termination: Solder; Number of Contacts: 10; Orientation: Straight; Length: 15.2mm; Height: 3.3mm; Contact Mating Length: 0.12inch; Depth: 3.43mm; Radiation Hardening: No; Lead Free: Lead Free; ComponentLink1URL: https://datasheet.ciiva.com/19461/2046846-19461026.pdf; ComponentLink1Description: https://datasheet.ciiva.com/19461/2046846-19461026.pdf; ComponentLink2URL: https://datasheet.ciiva.com/738/ftsh-1xx-xx-xxx-dv-xxx-mkt-738998.pdf; ComponentLink2Description: https://datasheet.ciiva.com/738/ftsh-1xx-xx-xxx-dv-xxx-mkt-738998.pdf; ComponentLink3URL: https://datasheet.ciiva.com/10245/ftsh-mt-10245273.pdf; ComponentLink3Description: https://datasheet.ciiva.com/10245/ftsh-mt-10245273.pdf; ComponentLink4URL: https://datasheet.ciiva.com/16657/ftsh-mt-16657371.pdf; ComponentLink4Description: https://datasheet.ciiva.com/16657/ftsh-mt-16657371.pdf; ComponentLink5URL: https://datasheet.ciiva.com/15195/getdatasheetpartid-133463-15195260.pdf; ComponentLink5Description: https://datasheet.ciiva.com/15195/getdatasheetpartid-133463-15195260.pdf; Supplier Part Number 1: SAM8796-ND
footprint JTAG_50mil_10pin
pins: 1 VTREF, 2 TMS, 3 GND, 4 TCK, 5 GND, 6 TDO, 7 KEY, 8 TDI, 9 GND, 10 nRESET

## CONN-USB
designator X?, comment 10118192-0001LF
CONN_USB - micro B USB 2.0 Receptacle Connector 5 Position Surface Mount, Right Angle, Horizontal; Manufacturer: Amphenol FCI; Current Rating: 1.8A; Connector Type: USB,Receptacle; Number of Contacts: 5; Insulation Resistance: 1GR; Number of Ports: 1; Max Voltage Rating (AC): 100V; USB Standard: USB 2.0; Pitch: 0.65mm; Supplier 1: Digi-Key; Manufacturer Part Number: 10118192-0001LF; Stock 1: 197826; Pricing 1: 1=0.46, 10=0.437, 25=0.3744, 50=0.318, 100=0.3056, 250=0.2744, 500=0.262 (USD); Mount: Surface Mount,Horizontal; Contact Material: Copper Alloy; Contact Plating: Nickel,Gold; Number of Terminals: 5; Housing Material: Polymer; Colour: Black; Min Operating Temperature: -55°C; Max Operating Temperature: 85°C; Packaging: Tape and Reel; Package Quantity: 1400; Gender: Receptacle; Termination: Solder; Voltage Rating: 100V; Orientation: Right Angle; Length: 7.86mm; Depth: 5.57mm; Radiation Hardening: No; REACH SVHC: No SVHC; Lead Free: Lead Free; Flammability Rating: UL94 V-0; ComponentLink1URL: https://datasheet.ciiva.com/26853/getdatasheetpartid-418041-26853891.pdf; ComponentLink1Description: https://datasheet.ciiva.com/26853/getdatasheetpartid-418041-26853891.pdf; ComponentLink2URL: https://datasheet.ciiva.com/851/10118192-851112.pdf; ComponentLink2Description: https://datasheet.ciiva.com/851/10118192-851112.pdf; ComponentLink3URL: https://datasheet.ciiva.com/4598/10118192ac-197249-4598796.pdf; ComponentLink3Description: https://datasheet.ciiva.com/4598/10118192ac-197249-4598796.pdf; Supplier Part Number 1: 609-4613-1-ND
footprint USB_MICRO
pins: 1 USBVDD, 2 D-, 3 D+, 4 ID, 5 USBVSS

## DCDC5V-5V
designator U?, comment 945-1655-5-ND
DC DC CONVERTER 5V 1W; Manufacturer: Recom; Manufacturer Part Number: ROE-0505S; Min Input Voltage: 4.5V; Max Input Voltage: 5.5V; Number of Outputs: 1; Max Output Current: 200mA; Efficiency: 75%; Isolation Voltage: 1kV; Isolation: Isolated; Supplier 1: Digi-Key; Stock 1: 4706; Pricing 1: 1=2.64, 5=2.604, 10=2.567, 25=2.4916, 50=2.416, 100=2.3405, 250=2.265, 500=2.114 (USD); Mount: Through Hole; Case/Package: SIP; Number of Pins: 4; Weight: 1.4g; Min Operating Temperature: -40°C; Max Operating Temperature: 85°C; Nominal Output Voltage: 5V; Output Current: 200mA; Output Voltage: 5V; Power Rating: 1W; Nominal Input Voltage: 5V; Output Power: 1W; Package Quantity: 42; Packaging: Rail/Tube; Min Input Voltage (DC): 4.5V; Voltage - Output 1: 5V; Current - Output 1: 200mA; Max Input Voltage (DC): 5.5V; Max Output Power: 1W; Max Power Dissipation: 1W; Max Output Voltage: 5V; Length: 11.5mm; Height: 10mm; Width: 6mm; Depth: 6mm; REACH SVHC: No SVHC; Lead Free: Lead Free; ComponentLink1URL: http://www.farnell.com/datasheets/2787770.pdf?src-supplier=Element14; ComponentLink1Description: http://www.farnell.com/datasheets/2787770.pdf?src-supplier=Element14; ComponentLink2URL: http://www.mouser.com/ds/2/468/ROE-766139.pdf?src-supplier=Mouser; ComponentLink2Description: http://www.mouser.com/ds/2/468/ROE-766139.pdf?src-supplier=Mouser; ComponentLink3URL: https://www.recom-power.com/pdf/Econoline/ROE.pdf?src-supplier=Digi-Key; ComponentLink3Description: https://www.recom-power.com/pdf/Econoline/ROE.pdf?src-supplier=Digi-Key; ComponentLink4URL: http://www.recom-international.com/pdf/Econoline/ROE.pdf?src-supplier=Future+Electronics; ComponentLink4Description: http://www.recom-international.com/pdf/Econoline/ROE.pdf?src-supplier=Future+Electronics; ComponentLink5URL: http://uk.rs-online.com/webdocs/1373/0900766b81373201.pdf?src-supplier=RSComponents; ComponentLink5Description: http://uk.rs-online.com/webdocs/1373/0900766b81373201.pdf?src-supplier=RSComponents; ComponentLink6URL: http://www.produktinfo.conrad.com/datenblaetter/675000-699999/676228-da-01-en-DC_DC_WANDLER_ROE_0505S.pdf?src-supplier=Conrad; ComponentLink6Description: http://www.produktinfo.conrad.com/datenblaetter/675000-699999/676228-da-01-en-DC_DC_WANDLER_ROE_0505S.pdf?src-supplier=Conrad; Supplier Part Number 1: 945-1655-5-ND
footprint ROE5050
pins: 1 Vin-, 2 Vin+, 3 Vout-, 4 Vout+

## DIFF_Node
designator D  (value not drawn)
footprint DIFF_PAIR_NODE
pins: 1 SW

## Diode 1.2KV-1A
designator D?, comment US1NWF-7
DIODE GEN PURP 1.2KV 1A SOD123F; Manufacturer: Diodes; Reverse Recovery Time: 80ns; Supplier 1: Digi-Key; Manufacturer Part Number: US1NWF-7; Stock 1: 33557; Pricing 1: 1=0.54, 10=0.438, 100=0.2985, 500=0.22388, 1000=0.1679 (USD); Mount: Surface Mount; Packaging: Tape and Reel; Max Reverse Voltage (DC): 1.2kV; Average Rectified Current: 1A; ComponentLink1URL: https://www.diodes.com/assets/Datasheets/US1NWF.pdf?src-supplier=Digi-Key; ComponentLink1Description: https://www.diodes.com/assets/Datasheets/US1NWF.pdf?src-supplier=Digi-Key; Supplier Part Number 1: US1NWF-7DIDKR-ND
footprint DIOM2718X12N (Molded Diode, 2-Leads, Body 2.70x1.80mm, IPC Medium Density)
pins: 1, 2

## DMN6040SK3-13
designator Q?  (value not drawn)
MOSFET N CH 60V 20A TO252; Manufacturer: Diodes; Manufacturer Part Number: DMN6040SK3-13; Input Capacitance: 1.287nF; Max Power Dissipation: 42W; Rise Time: 8.1ns; Rds On Max: 40mR; Number of Channels: 1; Drain to Source Resistance: 30mR; Turn-On Delay Time: 6.6ns; Turn-Off Delay Time: 20.1ns; Fall Time: 4ns; Element Configuration: Single; Gate to Source Voltage (Vgs): 20V; FET Type: 1 N-Channel; Polarity: N-CHANNEL; Supplier 1: Digi-Key; Stock 1: 2500; Pricing 1: 1=0.67, 10=0.573, 25=0.5344, 100=0.4275, 500=0.3359, 1000=0.25956 (USD); Mount: Surface Mount; Case/Package: TO-252-3; Number of Pins: 3; Weight: 0.139332oz; Min Operating Temperature: -55°C; Max Operating Temperature: 150°C; Packaging: Tape and Reel; Package Quantity: 2500; Drain to Source Voltage (Vdss): 60V; Continuous Drain Current (ID): 20A; Series: -; Length: 6.7mm; Width: 6.2mm; Height: 2.39mm; Radiation Hardening: No; REACH SVHC: No SVHC; Lead Free: Lead Free; RoHS Compliant: Yes; ComponentLink1URL: http://www.mouser.com/ds/2/115/DMN6040SK3-247263.pdf?src-supplier=Mouser; ComponentLink1Description: http://www.mouser.com/ds/2/115/DMN6040SK3-247263.pdf?src-supplier=Mouser; ComponentLink2URL: http://uk.rs-online.com/webdocs/1268/0900766b81268cd0.pdf?src-supplier=RSComponents; ComponentLink2Description: http://uk.rs-online.com/webdocs/1268/0900766b81268cd0.pdf?src-supplier=RSComponents; ComponentLink3URL: http://www.diodes.com/datasheets/DMN6040SK3.pdf?src-supplier=Avnet; ComponentLink3Description: http://www.diodes.com/datasheets/DMN6040SK3.pdf?src-supplier=Avnet; ComponentLink4URL: https://www.diodes.com/assets/Datasheets/DMN6040SK3.pdf?src-supplier=Digi-Key; ComponentLink4Description: https://www.diodes.com/assets/Datasheets/DMN6040SK3.pdf?src-supplier=Digi-Key; Supplier Part Number 1: DMN6040SK3-13DICT-ND
footprint TO-252-3 (D-PAK, 3-Pads, Body 6.20x6.71mm (max), IPC Medium Density)
pins: 1 G, 2 D, 3 S

## ECS-200-18-30B-AGN-TR
designator Y?  (value not drawn)
CRYSTAL 20.0000MHZ 18PF SMD; Manufacturer: ECS International; Manufacturer Part Number: ECS-200-18-30B-AGN-TR; Supplier 1: Digi-Key; Stock 1: 2820; Pricing 1: 1=0.69, 10=0.575, 50=0.5176, 100=0.46, 500=0.437 (USD); Supplier Part Number 1: XC2693CT-ND
footprint XTAL-SMD-4
pins: 1 IN, 2 GND, 3 OUT, 4 GND

## FERR-3A5
designator FB?, comment 23R @ 100 MHz  Max Current Rating: 3.5A
FERRITE BEAD 23 OHM 1806 1LN; Manufacturer: Taiyo Yuden; Manufacturer Part Number: FBMJ4516HL230NTV; Resistance: 180623R; Tolerance: 30%; Number of Lines: 1; DC Resistance (DCR): 14mR; Test Frequency: 100MHz; Supplier 1: Digi-Key; Stock 1: 1819; Pricing 1: 1=0.26, 10=0.202, 25=0.1676, 50=0.1444, 100=0.1299, 250=0.1097, 500=0.0982, 1000=0.0837 (USD); Mount: Surface Mount; Case/Package: 1806; Core Material: Ferrite; Case Code (Metric): 4516; Case Code (Imperial): 1806; Min Operating Temperature: -40°C; Max Operating Temperature: 125°C; Impedance: 23R; Package Quantity: 2000; Packaging: Tape and Reel; Max DC Current: 3.5A; Termination: SMD/SMT; Length: 0.177inch; Height: 1.1mm; Width: 1.6mm; Depth: 1.6mm; ComponentLink1URL: http://www.mouser.com/ds/2/396/chipbeads01_e-559265.pdf; ComponentLink1Description: http://www.mouser.com/ds/2/396/chipbeads01_e-559265.pdf; ComponentLink2URL: http://ds.yuden.co.jp/TYCOMPAS/ut/detail.do?productNo=FBMJ4516HL230NTV&fileName=FBMJ4516HL230NTV_SS&mode=specSheetDownload; ComponentLink2Description: http://ds.yuden.co.jp/TYCOMPAS/ut/detail.do?productNo=FBMJ4516HL230NTV&fileName=FBMJ4516HL230NTV_SS&mode=specSheetDownload; ComponentLink3URL: https://www.yuden.co.jp/ut/product/category/emisuppression/FBMJ4516HL230NTV_SS.pdf; ComponentLink3Description: https://www.yuden.co.jp/ut/product/category/emisuppression/FBMJ4516HL230NTV_SS.pdf; Supplier Part Number 1: 587-3857-1-ND
footprint FB-1806 (Chip Inductor, 2-Leads, Body 4.50x1.60mm, IPC Medium Density)
pins: 1, 2

## FT230XQ-R
designator U?
IC USB SERIAL BASIC UART 16QFN; Manufacturer: FTDI; Operating Supply Voltage: 5V; Data Rate: 12Mbps; Number of Channels: 1; Max Supply Voltage: 5.5V; Min Supply Voltage: 2.97V; Interface: USB,UART; Operating Supply Current: 8mA; Supplier 1: Digi-Key; Manufacturer Part Number: FT230XQ-R; Stock 1: 185744; Pricing 1: 1=2.04, 25=1.97, 100=1.9, 250=1.71, 500=1.54, 1000=1.4806 (USD); Mount: Surface Mount; Case/Package: QFN; Number of Pins: 16; Weight: 0.002014oz; Min Operating Temperature: -40°C; Max Operating Temperature: 85°C; Packaging: Tape and Reel; Package Quantity: 5000; Length: 4mm; Height: 0.75mm; Width: 4mm; Lead Free: Lead Free; ComponentLink1URL: https://datasheet.ciiva.com/16213/ds-ft230x-16213755.pdf; ComponentLink1Description: https://datasheet.ciiva.com/16213/ds-ft230x-16213755.pdf; ComponentLink2URL: https://datasheet.ciiva.com/48909/70403914-48909084.pdf; ComponentLink2Description: https://datasheet.ciiva.com/48909/70403914-48909084.pdf; ComponentLink3URL: https://datasheet.ciiva.com/1787/ft-x-series-1787309.pdf; ComponentLink3Description: https://datasheet.ciiva.com/1787/ft-x-series-1787309.pdf; ComponentLink4URL: https://datasheet.ciiva.com/1787/ft-x-series-1787310.pdf; ComponentLink4Description: https://datasheet.ciiva.com/1787/ft-x-series-1787310.pdf; ComponentLink5URL: https://datasheet.ciiva.com/1787/ft-x-series-1787311.pdf; ComponentLink5Description: https://datasheet.ciiva.com/1787/ft-x-series-1787311.pdf; ComponentLink6URL: https://datasheet.ciiva.com/30478/0900766b811020cb-30478159.pdf; ComponentLink6Description: https://datasheet.ciiva.com/30478/0900766b811020cb-30478159.pdf; Supplier Part Number 1: 768-1130-1-ND
footprint QFN16-USB (QFN, 16-Leads, Body 4.00x4.00mm, Pitch 0.65mm, Thermal Pad 2.08x2.08mm, IPC Medium Density)
pins: 1 VCCIO, 2 RXD, 3 GND, 4 CTS#, 5 CBUS2, 6 USBDP, 7 USBDM, 8 3V3OUT, 9 RESET#, 10 VCC, 11 CBUS1, 12 CBUS0, 13 GND, 14 CBUS3, 15 TXD, 16 RTS#, 17 GND

## FT231XQ-R
designator U?
IC USB SERIAL FULL UART 20QFN; Manufacturer: FTDI; Data Rate: 12Mbps; Number of Channels: 1; Max Supply Voltage: 5.5V; Min Supply Voltage: 2.97V; Interface: UART,USB; Operating Supply Current: 8mA; Supplier 1: Digi-Key; Manufacturer Part Number: FT231XQ-R; Stock 1: 0; Pricing 1: 1=2.22, 25=2.15, 100=2.08, 250=1.88, 500=1.7, 1000=1.63001, 2500=1.6125 (USD); Mount: Surface Mount; Case/Package: QFN; Number of Pins: 20; Weight: 0.004339oz; Min Operating Temperature: -40°C; Max Operating Temperature: 85°C; Packaging: Tape and Reel; Package Quantity: 5000; Series: USBmadeEZ-UART, FT-X, X-Chip; Lead Free: Lead Free; RoHS Compliant: Yes; ComponentLink1URL: http://uk.rs-online.com/webdocs/1384/0900766b8138463c.pdf?src-supplier=RSComponents; ComponentLink1Description: http://uk.rs-online.com/webdocs/1384/0900766b8138463c.pdf?src-supplier=RSComponents; ComponentLink2URL: https://media.digikey.com/pdf/Data%20Sheets/FTDI%20Chip%20PDFs/X-Chip_Series_Errata.pdf?src-supplier=Digi-Key; ComponentLink2Description: https://media.digikey.com/pdf/Data%20Sheets/FTDI%20Chip%20PDFs/X-Chip_Series_Errata.pdf?src-supplier=Digi-Key; ComponentLink3URL: http://www.mouser.com/ds/2/163/DS_FT231X-13571.pdf?src-supplier=Mouser; ComponentLink3Description: http://www.mouser.com/ds/2/163/DS_FT231X-13571.pdf?src-supplier=Mouser; Supplier Part Number 1: 768-1128-1-ND
footprint QFN-20 (QFN, 20-Leads, Body 4.00x4.00mm, Pitch 0.50mm, Thermal Pad 1.98x1.98mm, IPC Medium Density)
pins: 1 RXD, 2 RI#, 3 GND, 4 DSR#, 5 DCD#, 6 CTS#, 7 CBUS2, 8 USBDP, 9 USBDM, 10 3V3OUT, 11 RESET#, 12 VCC, 13 GND, 14 CBUS1, 15 CBUS0, 16 CBUS3, 17 TXD, 18 DTR#, 19 RTS#, 20 VCCIO, 21 GND

## FT231XS-R
designator U?, comment 768-1129-1-ND
IC USB SERIAL FULL UART 20SSOP; Manufacturer: FTDI; Manufacturer Part Number: FT231XS-R; Number of Channels: 1; Max Supply Voltage: 5.5V; Min Supply Voltage: 2.97V; Operating Supply Voltage: 5V; Data Rate: 12Mbps; Interface: UART,USB; Operating Supply Current: 8mA; Supplier 1: Digi-Key; Stock 1: 54093; Pricing 1: 1=2.22, 25=2.15, 100=2.08, 250=1.88, 500=1.7, 1000=1.675 (USD); Mount: Surface Mount; Case/Package: SSOP; Number of Pins: 20; Weight: 0.016oz; Min Operating Temperature: -40°C; Max Operating Temperature: 85°C; Packaging: Tape and Reel; Package Quantity: 2000; Series: USBmadeEZ-UART, FT-X, X-Chip; Length: 8.74mm; Width: 0.157inch; Height: 0.059inch; Radiation Hardening: No; RoHS Compliant: Yes; ComponentLink1URL: http://www.alliedelec.com/images/products/datasheets/bm/FTDI/70403932.pdf?src-supplier=Allied+Electronics; ComponentLink1Description: http://www.alliedelec.com/images/products/datasheets/bm/FTDI/70403932.pdf?src-supplier=Allied+Electronics; ComponentLink2URL: http://uk.rs-online.com/webdocs/1102/0900766b811020d3.pdf?src-supplier=RSComponents; ComponentLink2Description: http://uk.rs-online.com/webdocs/1102/0900766b811020d3.pdf?src-supplier=RSComponents; ComponentLink3URL: https://media.digikey.com/pdf/Data%20Sheets/FTDI%20Chip%20PDFs/X-Chip_Series_Errata.pdf?src-supplier=Digi-Key; ComponentLink3Description: https://media.digikey.com/pdf/Data%20Sheets/FTDI%20Chip%20PDFs/X-Chip_Series_Errata.pdf?src-supplier=Digi-Key; ComponentLink4URL: http://www.ftdichip.com/Support/Documents/DataSheets/ICs/DS_FT231X.pdf?src-supplier=Digi-Key; ComponentLink4Description: http://www.ftdichip.com/Support/Documents/DataSheets/ICs/DS_FT231X.pdf?src-supplier=Digi-Key; Supplier Part Number 1: 768-1129-1-ND
footprint SSOP-20 (SOP, 20-Leads, Body 8.65x3.90mm, Pitch 0.64mm, IPC Medium Density)
pins: 1 RXD, 2 RI#, 3 GND, 4 DSR#, 5 DCD#, 6 CTS#, 7 CBUS2, 8 USBDP, 9 USBDM, 10 3V3OUT, 11 RESET#, 12 VCC, 13 GND, 14 CBUS1, 15 CBUS0, 16 CBUS3, 17 TXD, 18 DTR#, 19 RTS#, 20 VCCIO

## IND-3.3uH-5.5A
designator L?  Inductance: 3.3uH  DC Resistance (DCR): 40.4mR  Current Rating: 5.5A  (hidden comment: *)
FIXED IND 3.3UH 5.5A 40.4MOHM SM; Manufacturer: Vishay Dale; Manufacturer Part Number: IHLP2020CZER3R3M11; Inductance Tolerance: 20%; Shielding: Shielded; Saturation Current: 7A; Self Resonant Frequency: 29MHz; Test Frequency: 100kHz; Supplier 1: Digi-Key; Stock 1: 17207; Pricing 1: 1=1.29, 10=1.194, 25=1.1024, 50=0.9188, 100=0.8636, 250=0.77176, 500=0.6615, 1000=0.588 (USD); Mount: Surface Mount; Case/Package: 2020; Contact Plating: Tin; Min Operating Temperature: -55°C; Max Operating Temperature: 125°C; Tolerance: 20%; Package Quantity: 2000; Packaging: Tape and Reel; Max DC Current: 7A; Termination: SMD/SMT; RMS Current (Irms): 5.5A; Series: IHLP-2020CZ-11; Rated Current-Max: 5.5A; Length: 5.74mm; Width: 0.204inch; Height: 3mm; Height - Seated (Max): 0.118inch; Depth: 5.43mm; Radiation Hardening: No; REACH SVHC: Unknown; Military Standard: Not; Lead Free: Lead Free; ComponentLink1URL: http://www.farnell.com/datasheets/480942.pdf?src-supplier=Element14; ComponentLink1Description: http://www.farnell.com/datasheets/480942.pdf?src-supplier=Element14; ComponentLink2URL: http://www.vishay.com/docs/34260/ihlp2020cz11.pdf?src-supplier=Digi-Key; ComponentLink2Description: http://www.vishay.com/docs/34260/ihlp2020cz11.pdf?src-supplier=Digi-Key; ComponentLink3URL: http://www.mouser.com/ds/2/427/ihlp2020cz11-270739.pdf?src-supplier=Mouser; ComponentLink3Description: http://www.mouser.com/ds/2/427/ihlp2020cz11-270739.pdf?src-supplier=Mouser; ComponentLink4URL: http://uk.rs-online.com/webdocs/102c/0900766b8102c930.pdf?src-supplier=RSComponents; ComponentLink4Description: http://uk.rs-online.com/webdocs/102c/0900766b8102c930.pdf?src-supplier=RSComponents; ComponentLink5URL: http://www.vishay.com/docs/34260/lp20cz11.pdf?src-supplier=Avnet; ComponentLink5Description: http://www.vishay.com/docs/34260/lp20cz11.pdf?src-supplier=Avnet; Supplier Part Number 1: 541-1237-1-ND
footprint INDM5252X30N (Molded Inductor, 2-Leads, Body 5.19x5.19mm, IPC Medium Density)
pins: 1, 2

## IND-3.6uH-8.3A
designator L?, comment 3.6uH
FIXED IND 3.6UH 8.3A 11MOHM SMD; Manufacturer: Sumida; Manufacturer Part Number: CDRH127L125NP-3R6NC; Supplier 1: Digi-Key; Stock 1: 314; Pricing 1: 1=1.18, 10=1.092, 25=1.008, 50=0.84, 100=0.7896, 250=0.7056 (USD); Supplier Part Number 1: 308-CDRH127L125NP-3R6NCCT-ND
pins: 1, 2

## IND-22uH-630mA
designator L?, comment 22uH
FIXED IND 22UH 630MA 700MOHM SMD; Manufacturer: Recom; Manufacturer Part Number: RLS-226; Supplier 1: Digi-Key; Stock 1: 512; Pricing 1: 1=0.72, 5=0.714, 10=0.704, 25=0.6832, 50=0.6626, 250=0.62116, 500=0.57974 (USD); ComponentLink1URL: https://www.recom-power.com/pdf/Accessories/RLS-226.pdf?src-supplier=Digi-Key; ComponentLink1Description: https://www.recom-power.com/pdf/Accessories/RLS-226.pdf?src-supplier=Digi-Key; Supplier Part Number 1: 945-30004971-ND
footprint IND-4532 (Precision Wire Wound Inductor, 2-Leads, Body 5.05x3.50mm, IPC Medium Density)
pins: 1, 2